# EAGLE library part SFG (library sfg_connector)
SFG CONNECTOR
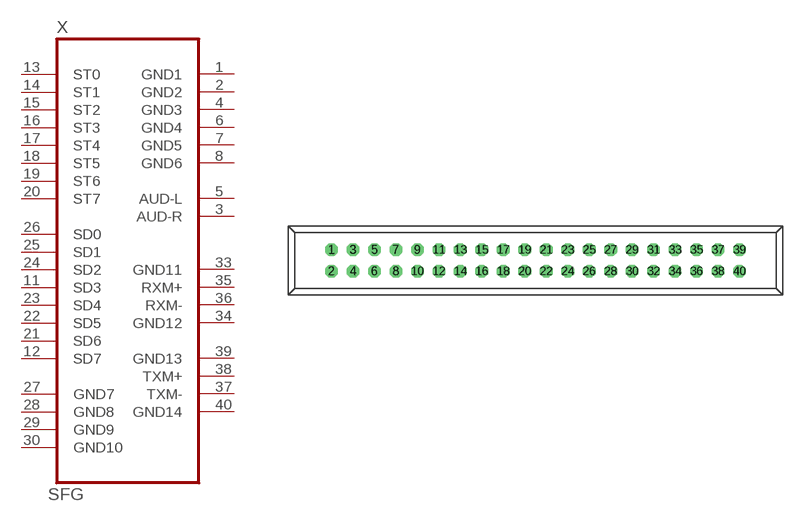
[diagram p0: symbol with the pads of SFG; footprint SFG]

Designator prefix X

## SFGSFG  [SFG]
1  GND1  in
2  GND2  in
3  AUD-R  pas
4  GND3  in
5  AUD-L  pas
6  GND4
7  GND5  out
8  GND6  pas
11  SD3
12  SD7
13  ST0  in
14  ST1
15  ST2
16  ST3
17  ST4
18  ST5
19  ST6
20  ST7
21  SD6
22  SD5
23  SD4
24  SD2
25  SD1
26  SD0
27  GND7  pas
28  GND8  pas
29  GND9  pas
30  GND10  pas
33  GND11  pwr
34  GND12  pwr
35  RXM+  pwr
36  RXM-  pwr
37  TXM-  in
38  TXM+  in
39  GND13  pwr
40  GND14  pwr

## Footprint SFG (pad centres in mm)
SFG CONNECTOR
drill 1 octagon: 1 -24.13,1.27; 2 -24.13,-1.27; 3 -21.59,1.27; 4 -21.59,-1.27; 5 -19.05,1.27; 6 -19.05,-1.27; 7 -16.51,1.27; 8 -16.51,-1.27; 9 -13.97,1.27; 10 -13.97,-1.27; 11 -11.43,1.27; 12 -11.43,-1.27; 13 -8.89,1.27; 14 -8.89,-1.27; 15 -6.35,1.27; 16 -6.35,-1.27; 17 -3.81,1.27; 18 -3.81,-1.27; 19 -1.27,1.27; 20 -1.27,-1.27; 21 1.27,1.27; 22 1.27,-1.27; 23 3.81,1.27; 24 3.81,-1.27; 25 6.35,1.27; 26 6.35,-1.27; 27 8.89,1.27; 28 8.89,-1.27; 29 11.43,1.27; 30 11.43,-1.27; 31 13.97,1.27; 32 13.97,-1.27; 33 16.51,1.27; 34 16.51,-1.27; 35 19.05,1.27; 36 19.05,-1.27; 37 21.59,1.27; 38 21.59,-1.27; 39 24.13,1.27; 40 24.13,-1.27